# Altium schematic symbol library SFPextension.SCHLIB: 4 symbols
Pins are listed as number, name and electrical type; pins without a type are passive.

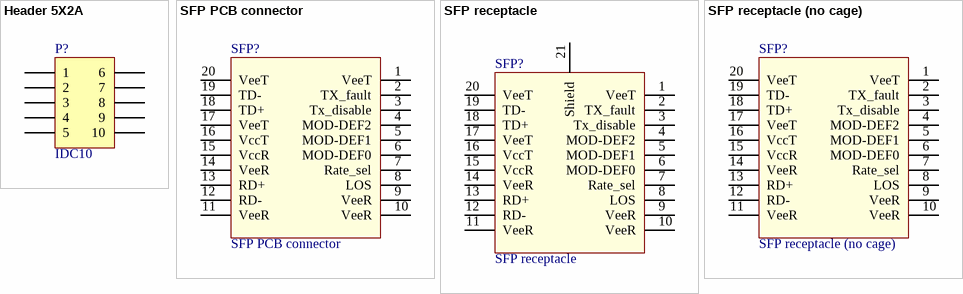
[diagram p0: symbols Header 5X2A to SFP receptacle (no cage)]

## Header 5X2A
designator P?, comment IDC10
Header, 5-Pin, Dual row; LatestRevisionDate: 17-Jul-2002; LatestRevisionNote: Re-released for DXP Platform.; Publisher: Altium Limited
footprint HDR2X5_CEN (Connector; Header; 5x2 Position)
signal-integrity model Connector
pins: 1, 2, 3, 4, 5, 6, 7, 8, 9, 10

## SFP PCB connector
designator SFP?
footprint SFP pcb con
pins: 1 VeeT (power), 2 TX_fault (power), 3 Tx_disable (power), 4 MOD-DEF2 (power), 5 MOD-DEF1 (power), 6 MOD-DEF0 (power), 7 Rate_sel (power), 8 LOS (power), 9 VeeR (power), 10 VeeR (power), 11 VeeR (power), 12 RD- (power), 13 RD+ (power), 14 VeeR (power), 15 VccR (power), 16 VccT (power), 17 VeeT (power), 18 TD+ (power), 19 TD- (power), 20 VeeT (power)

## SFP receptacle
designator SFP?
footprint SFP receptacle
pins: 1 VeeT (power), 2 TX_fault (power), 3 Tx_disable (power), 4 MOD-DEF2 (power), 5 MOD-DEF1 (power), 6 MOD-DEF0 (power), 7 Rate_sel (power), 8 LOS (power), 9 VeeR (power), 10 VeeR (power), 11 VeeR (power), 12 RD- (power), 13 RD+ (power), 14 VeeR (power), 15 VccR (power), 16 VccT (power), 17 VeeT (power), 18 TD+ (power), 19 TD- (power), 20 VeeT (power), 21 Shield (power)

## SFP receptacle (no cage)
designator SFP?
footprint SFP receptacle (no cage)
pins: 1 VeeT (power), 2 TX_fault (power), 3 Tx_disable (power), 4 MOD-DEF2 (power), 5 MOD-DEF1 (power), 6 MOD-DEF0 (power), 7 Rate_sel (power), 8 LOS (power), 9 VeeR (power), 10 VeeR (power), 11 VeeR (power), 12 RD- (power), 13 RD+ (power), 14 VeeR (power), 15 VccR (power), 16 VccT (power), 17 VeeT (power), 18 TD+ (power), 19 TD- (power), 20 VeeT (power)